# Altium schematic symbol library REF200AU2K5G4.SchLib: 1 symbol
Pins are listed as number, name and electrical type; pins without a type are passive.

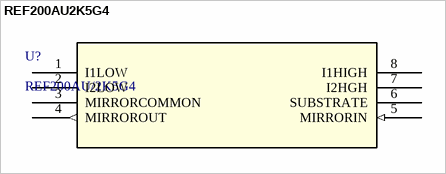
[diagram p0: symbol REF200AU2K5G4]

## REF200AU2K5G4
designator U?, comment REF200AU/2K5G4
Description; Manufacturer_Name: Texas Instruments; Copyright: Copyright (C) 2026 Ultra Librarian. All rights reserved.; Manufacturer_Part_Number: REF200AU/2K5G4; RefDes: RefDes; Type: Type
footprint D8_TEX
pins: 1 I1LOW, 2 I2LOW, 3 MIRRORCOMMON, 4 MIRROROUT (out), 5 MIRRORIN (in), 6 SUBSTRATE, 7 I2HGH, 8 I1HIGH